# EAGLE library part JW5361FM (library _mtvl.power)
Sync. Step-Down Converter - JoulWatt Tech Datasheet <https://www.lcsc.com/datasheet/lcsc_datasheet_2209140930_JoulWatt-Tech-JW5361FMSOTB-TR_C5121635.pdf>
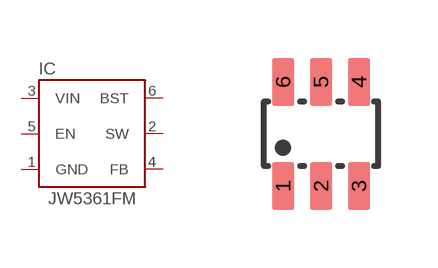
[diagram p23: symbol with the pads of SOT23-6; footprint SOT23-6]

Designator prefix IC

## JW5361FM  [SOT23-6]
1  GND  pwr
2  SW  out
3  VIN  pwr
4  FB  in
5  EN  in
6  BST  in

## Footprint SOT23-6 (pad centres in mm)
smd 0.55 x 1.2: 1 -0.95,-1.3; 2 0,-1.3; 3 0.95,-1.3; 4 0.95,1.3; 5 0,1.3; 6 -0.95,1.3